# Altium footprint library jl_lib.PcbLib: 15 footprints
Each footprint in its own frame and in the unit in brackets; x right, y up, seen from the top. Pads: shape width x height; smd on the part's side, far side on the other; paste and mask are expansions set on the pad; w line width, h text height; cw(c..) or ccw(c..) is an arc to the next point about the centre after c.
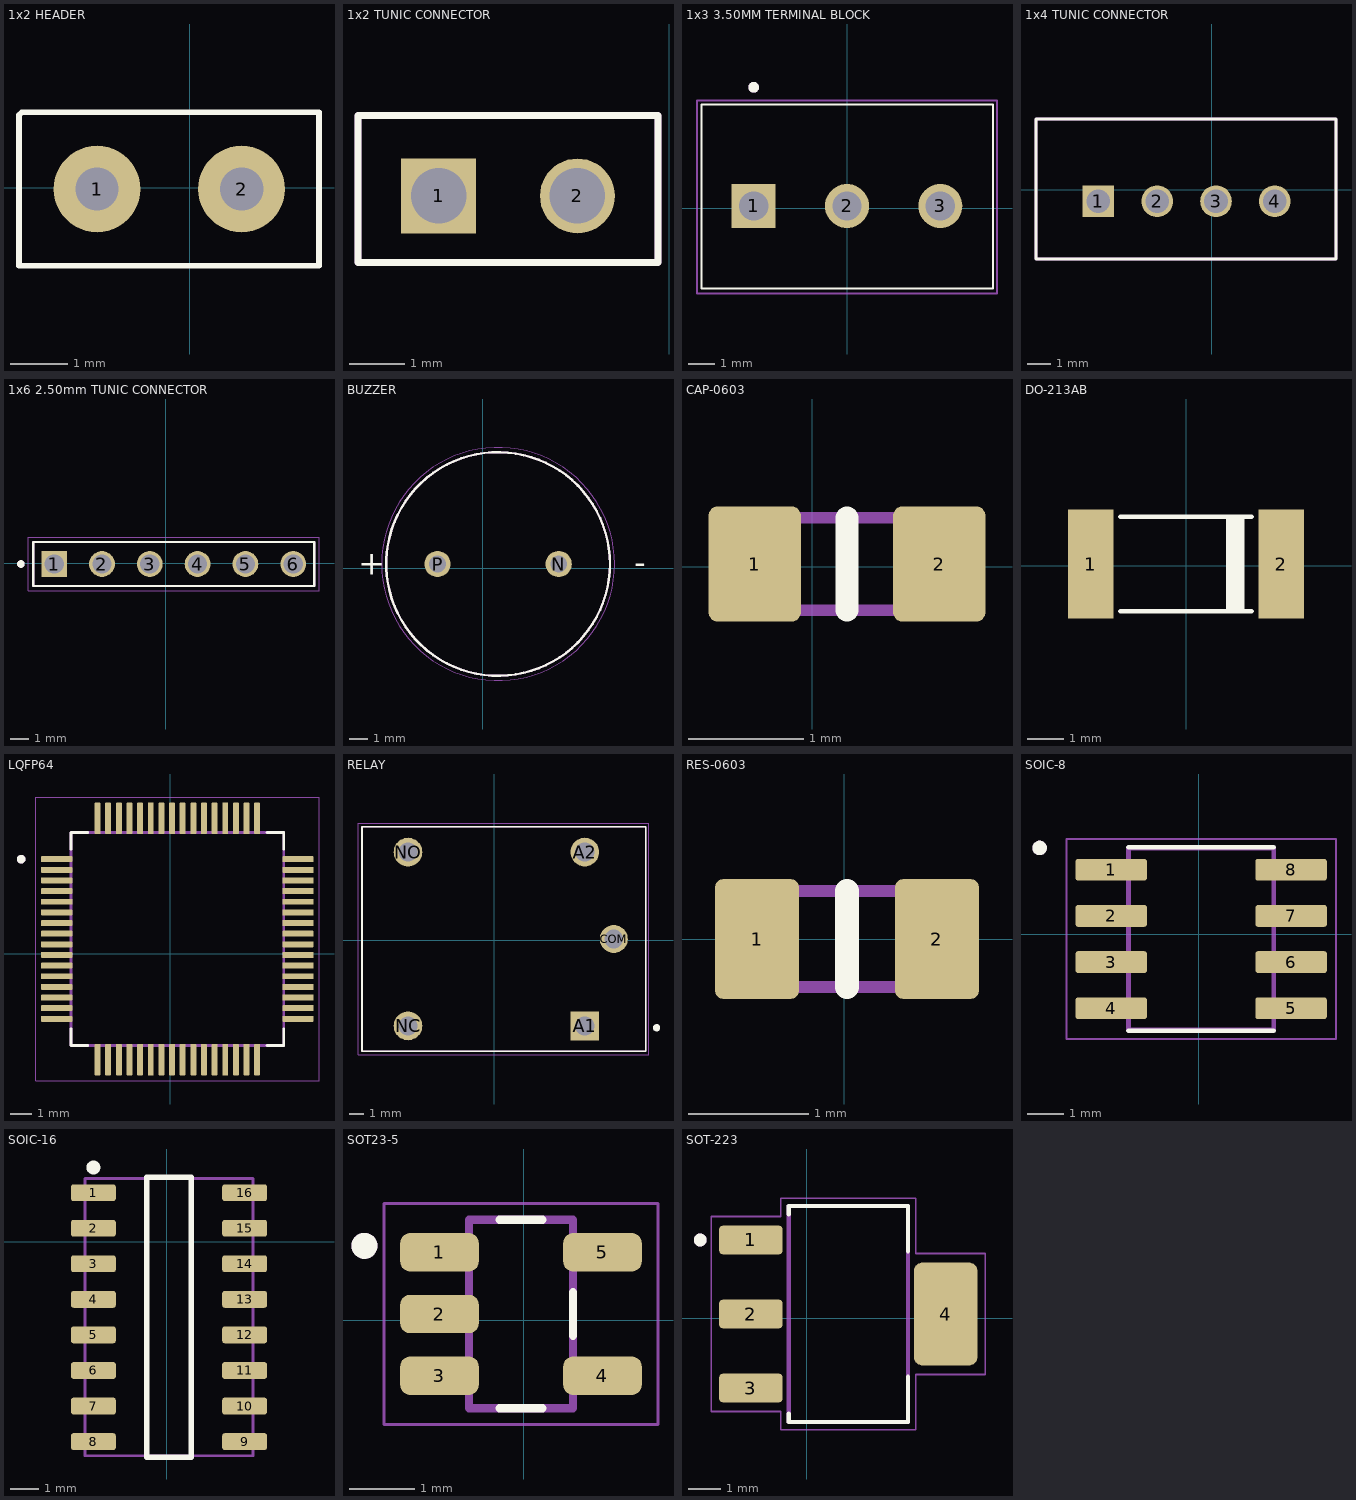
[diagram p0: the footprints below, top view; thin cyan lines are the x and y axes]

## 1x2 HEADER [mil]
pads (2):
  round 60 hole 30: 1(-63.98,-0.98) 2(36.02,-0.98)
Top Overlay:
  lines w3.94: -117.96,-54.13 -117.96,50.17 -115.96,52.17 89.57,52.17 89.57,-54.13 -117.96,-54.13
3D body "Pin Header 1x2 TH Pitch 2.54mm.stp": height 373.85, standoff -125.98, extent -113.97,-50.98 86.03,49.02

## 1x2 TUNIC CONNECTOR [mm]
pads (2):
  rect 1.35x1.35 hole 1 mask+0.076: 1(-4.15,6.6)
  round 1.35 hole 1 mask+0.076: 2(-1.65,6.6)
Top Overlay:
  lines w0.127: -5.6,5.4 -5.6,8.05 -0.2,8.05 -0.2,5.4 -5.6,5.4
Top Solder:
  circle w0.751: c-1.65,6.6 r0.376
  region: -4.901,7.351 -3.399,7.351 -3.399,5.849 -4.901,5.849
Mechanical 13:
  lines w0.127: -5.6,5.4 -5.6,8.05 -0.2,8.05 -0.2,5.4 -5.6,5.4

## 1x3 3.50MM TERMINAL BLOCK [mm]
pads (3):
  rect 1.65x1.65 hole 1.1: 1(-3.5,0.075)
  round 1.65 hole 1.1: 2(0,0.075) 3(3.5,0.075)
Top Overlay:
  circle w0.2: c-3.5,4.525 r0.1
  lines w0.07: -5.45,-3.025 -5.45,3.875 5.475,3.875 5.475,-3.025 5.2,-3.025 -5.45,-3.025
Mechanical 13:
  circle w0.2: c-3.5,4.525 r0.1
Mechanical 15:
  lines w0.07: -5.625,-3.2 5.625,-3.2 5.625,4.025 -5.625,4.025 -5.625,-3.2
3D body "Screw Terminal Block 3.5mm 3-way.step": height 8.4, standoff -2, extent -5.4,-2.975 5.4,3.825

## 1x4 TUNIC CONNECTOR [mm]
pads (4):
  rect 1.35x1.35 hole 1 mask+0.076: 1(-4.825,-0.5)
  round 1.35 hole 1 mask+0.076: 2(-2.325,-0.5) 3(0.175,-0.5) 4(2.675,-0.5)
Top Overlay:
  lines w0.127: -7.475,-2.95 5.275,-2.95 5.275,3 -7.475,3 -7.475,-2.95
Top Solder:
  circle w0.751: c-2.325,-0.5 r0.376
  circle w0.751: c0.175,-0.5 r0.376
  circle w0.751: c2.675,-0.5 r0.376
  region: -5.576,0.251 -4.074,0.251 -4.074,-1.251 -5.576,-1.251
Mechanical 13:
  lines w0.127: -7.475,-2.95 5.275,-2.95 5.275,3 -7.475,3 -7.475,-2.95
3D body "User Library-jst-b4b-xh-a-1.step": height 7, standoff -3.4, extent -7.275,-2.875 5.125,2.875

## 1x6 2.50mm TUNIC CONNECTOR [mm]
pads (6):
  rect 1.37x1.37 hole 1.02: 1(-5.925,-0.05)
  round 1.37 hole 1.02: 2(-3.385,-0.05) 3(-0.845,-0.05) 4(1.695,-0.05) 5(4.235,-0.05) 6(6.775,-0.05)
Top Overlay:
  circle w0.2: c-7.693,-0.05 r0.1
  lines w0.127: -7.043,-1.218 -7.043,1.118 7.893,1.118 7.893,-1.218 -7.043,-1.218
Mechanical 13:
  circle w0.2: c-7.693,-0.05 r0.1
  lines w0.127: -7.043,-1.218 -7.043,1.118 7.893,1.118 7.893,-1.218 ; -7.043,-1.218 7.893,-1.218 ; -7.043,-1.218 7.893,-1.218
Mechanical 15:
  lines w0.05: -7.293,-1.468 -7.293,1.368 8.143,1.368 8.143,-1.468 -7.293,-1.468
3D body "User Library-Header 6P 2_54.step": height 6.8, standoff -3.4, extent -8.375,-3.175 9.125,2.625

## BUZZER [mm]
pads (2):
  round 1.408 hole 0.9: N(4.075,0.225) P(-2.425,0.225)
Top Overlay:
  circle w0.127: c0.825,0.225 r6
  text "+" at -6.692,-0.346 h1.27
  text "-" at 8.13,-0.302 h1.27
Mechanical 13:
  circle w0.127: c0.825,0.225 r6
Mechanical 15:
  circle w0.05: c0.825,0.225 r6.25
3D body "User Library-buzzer12.step": height 7.5, standoff -2, extent -5.1,-5.793 6.9,6.193

## CAP-0603 [mm]
pads (2):
  rrect20% 0.8x1 smd: 1(-0.5,0.025) 2(1.1,0.025)
Top Overlay:
  lines w0.2: 0.3,-0.375 0.3,0.425
Mechanical 15:
  lines w0.1: -0.5,-0.375 -0.5,0.425 1.1,0.425 1.1,-0.375 -0.5,-0.375
  text ".Designator" at -0.2,-0.075 h0.7
3D body "User Library-User Library-cap0603_cap0603_body.STEP": height 0.87, standoff -0.01, extent -0.5,-0.38 1.1,0.43

## DO-213AB [mm]
pads (2):
  rect 1.25x3 smd: 1(-2.625,0.05) 2(2.625,0.05)
Top Overlay:
  region: 1.1,1.35 1.6,1.35 1.6,-1.25 1.1,-1.25
  lines w0.127: -1.8,-1.25 1.8,-1.25 ; -1.8,1.35 1.8,1.35
3D body "User Library-Vishay - MELF DO-213AB.step": height 2.64, standoff -0.04, extent -2.525,-1.325 2.675,1.345

## LQFP64 [mm]
pads (64):
  rrect25% 1.47x0.28 smd: 1(-5.334,4.445) 2(-5.334,3.945) 3(-5.334,3.445) 4(-5.334,2.945) 5(-5.334,2.445) 6(-5.334,1.945) 7(-5.334,1.445) 8(-5.334,0.945) 9(-5.334,0.445) 10(-5.334,-0.055) 11(-5.334,-0.555) 12(-5.334,-1.055) 13(-5.334,-1.555) 14(-5.334,-2.055) 15(-5.334,-2.555) 16(-5.334,-3.055) 33(6.006,-3.055) 34(6.006,-2.555) 35(6.006,-2.055) 36(6.006,-1.555) 37(6.006,-1.055) 38(6.006,-0.555) 39(6.006,-0.055) 40(6.006,0.445) 41(6.006,0.945) 42(6.006,1.445) 43(6.006,1.945) 44(6.006,2.445) 45(6.006,2.945) 46(6.006,3.445) 47(6.006,3.945) 48(6.006,4.445)
  rrect25% 0.28x1.47 smd: 17(-3.414,-4.975) 18(-2.914,-4.975) 19(-2.414,-4.975) 20(-1.914,-4.975) 21(-1.414,-4.975) 22(-0.914,-4.975) 23(-0.414,-4.975) 24(0.086,-4.975) 25(0.586,-4.975) 26(1.086,-4.975) 27(1.586,-4.975) 28(2.086,-4.975) 29(2.586,-4.975) 30(3.086,-4.975) 31(3.586,-4.975) 32(4.086,-4.975) 49(4.086,6.365) 50(3.586,6.365) 51(3.086,6.365) 52(2.586,6.365) 53(2.086,6.365) 54(1.586,6.365) 55(1.086,6.365) 56(0.586,6.365) 57(0.086,6.365) 58(-0.414,6.365) 59(-0.914,6.365) 60(-1.414,6.365) 61(-1.914,6.365) 62(-2.414,6.365) 63(-2.914,6.365) 64(-3.414,6.365)
Top Overlay:
  circle w0.2: c-7.004,4.445 r0.1
  lines w0.127: -4.664,-3.515 -4.664,-4.305 -3.874,-4.305 ; -4.664,4.905 -4.664,5.695 -3.874,5.695 ; 4.546,-4.305 5.336,-4.305 5.336,-3.515 ; 4.546,5.695 5.336,5.695 5.336,4.905
Mechanical 13:
  circle w0.2: c-7.004,4.445 r0.1
  lines w0.127: -4.664,-4.305 -4.664,5.695 5.336,5.695 5.336,-4.305 -4.664,-4.305
Mechanical 15:
  lines w0.05: -6.319,-5.96 -6.319,7.35 6.991,7.35 6.991,-5.96 -6.319,-5.96
3D body "STM32F215RET6.STEP": height 1.56, standoff -0.04, extent -5.675,-5.325 6.325,6.675

## RELAY [mm]
pads (5):
  rect 1.98x1.98 hole 1.32: A1(6.25,-5.9)
  round 1.98 hole 1.32: A2(6.25,6.1) NC(-5.95,-5.9) NO(-5.95,6.1)
  round 1.935 hole 1.29: COM(8.25,0.1)
Top Overlay:
  circle w0.3: c11.2,-6.025 r0.1
  lines w0.127: -9.125,-7.65 10.45,-7.65 10.45,7.85 -9.125,7.85 -9.125,-7.65
Mechanical 13:
  lines w0.127: -9.125,-7.65 10.45,-7.65 10.45,7.85 -9.125,7.85 -9.125,-7.65
Mechanical 15:
  lines w0.05: -9.4,-7.9 10.65,-7.9 10.65,8.1 -9.4,8.1 -9.4,-7.9
3D body "SRD-05VDC-SL-C--3DModel-STEP-56544.STEP": height 16.15, standoff -4, extent -8.825,-7.475 10.175,7.525

## RES-0603 [mm]
pads (2):
  rrect20% 0.7x1 smd: 1(-0.725,0) 2(0.775,0)
Top Overlay:
  lines w0.2: 0.025,-0.4 0.025,0.4
Mechanical 15:
  lines w0.1: -0.775,-0.4 -0.775,0.4 0.825,0.4 0.825,-0.4 -0.775,-0.4
  text ".Designator" at -0.475,-0.1 h0.7
3D body "User Library-User Library-res0603_res0603_body.STEP": height 0.51, standoff 0, extent -0.775,-0.406 0.825,0.406

## SOIC-8 [mm]
pads (8):
  rrect25% 1.97x0.6 smd: 1(-2.413,1.778) 2(-2.413,0.508) 3(-2.413,-0.762) 4(-2.413,-2.032) 5(2.537,-2.032) 6(2.537,-0.762) 7(2.537,0.508) 8(2.537,1.778)
Top Overlay:
  circle w0.2: c-4.383,2.378 r0.1
  lines w0.127: -1.938,-2.652 2.062,-2.652 ; -1.938,2.398 2.062,2.398
Mechanical 13:
  circle w0.2: c-4.383,2.378 r0.1
  lines w0.127: -1.938,-2.627 2.062,-2.627 2.062,2.373 -1.938,2.373 -1.938,-2.627
Mechanical 15:
  lines w0.05: -3.648,-2.877 3.772,-2.877 3.772,2.623 -3.648,2.623 -3.648,-2.877
3D body "STM32G031J6M6.STEP": height 1.75, standoff 0, extent -2.925,-2.6 3.075,2.3

## SOIC-16 [mm]
pads (16):
  rrect30% 1.6x0.6 smd: 1(-2.625,1.75) 2(-2.625,0.48) 3(-2.625,-0.79) 4(-2.625,-2.06) 5(-2.625,-3.33) 6(-2.625,-4.6) 7(-2.625,-5.87) 8(-2.625,-7.14) 9(2.775,-7.14) 10(2.775,-5.87) 11(2.775,-4.6) 12(2.775,-3.33) 13(2.775,-2.06) 14(2.775,-0.79) 15(2.775,0.48) 16(2.775,1.75)
Top Overlay:
  circle w0.25: c-2.625,2.65 r0.125
  lines w0.2: -0.725,-7.695 -0.725,2.305 0.875,2.305 0.875,-7.695 -0.725,-7.695
Mechanical 15:
  lines w0.1: -2.925,-7.645 3.075,-7.645 3.075,2.255 -2.925,2.255 -2.925,-7.645
  lines w0.2: -2.325,1.705 -2.325,1.705
  text ".Designator" at -0.625,-3.095 h0.7
3D body "SOIC-16.STEP": height 1.4, standoff 0, extent -2.925,-7.645 3.075,2.255

## SOT23-5 [mm]
pads (5):
  rrect50% 1.21x0.59 smd: 1(-1.3,1.05) 2(-1.3,0.1) 3(-1.3,-0.85) 4(1.21,-0.85) 5(1.21,1.05)
Top Overlay:
  circle w0.2: c-2.455,1.15 r0.1
  lines w0.127: -0.375,-1.35 0.285,-1.35 ; -0.375,1.55 0.285,1.55 ; 0.755,-0.235 0.755,0.435
Mechanical 13:
  circle w0.2: c-2.455,1.15 r0.1
  lines w0.127: -0.845,-1.35 0.755,-1.35 0.755,1.55 -0.845,1.55 -0.845,-1.35
Mechanical 15:
  lines w0.05: -2.155,-1.6 -2.155,1.8 2.065,1.8 2.065,-1.6 -2.155,-1.6
3D body "TLV70233DBVR.STEP": height 1.45, standoff 0, extent -1.4,-1.375 1.4,1.525

## SOT-223 [mm]
pads (4):
  rrect25% 1.97x0.89 smd: 1(-1.732,2.427) 2(-1.732,0.127) 3(-1.732,-2.173)
  rrect25% 1.97x3.19 smd: 4(4.318,0.127)
Top Overlay:
  circle w0.2: c-3.307,2.427 r0.1
  lines w0.127: -0.557,-2.973 -0.557,-3.223 3.143,-3.223 3.143,-1.823 ; -0.557,3.227 -0.557,3.477 3.143,3.477 3.143,2.077
Mechanical 13:
  circle w0.2: c-3.307,2.427 r0.1
  lines w0.127: -0.557,-3.223 -0.557,3.477 3.143,3.477 3.143,-3.223 -0.557,-3.223
Mechanical 15:
  lines w0.05: -2.967,-2.903 -0.807,-2.903 -0.807,-3.473 3.393,-3.473 3.393,-1.753 5.553,-1.753 5.553,2.007 3.393,2.007 3.393,3.727 -0.807,3.727 -0.807,3.157 -2.967,3.157 -2.967,-2.903
3D body "DB.STEP": height 1.8, standoff 0, extent -2.199,-3.2 4.799,3.3